# Altium footprint library MKKDS 1 9-3-81.PcbLib: 1 footprints
Each footprint in its own frame and in the unit in brackets; x right, y up, seen from the top. Pads: shape width x height; smd on the part's side, far side on the other; paste and mask are expansions set on the pad; w line width, h text height; cw(c..) or ccw(c..) is an arc to the next point about the centre after c.
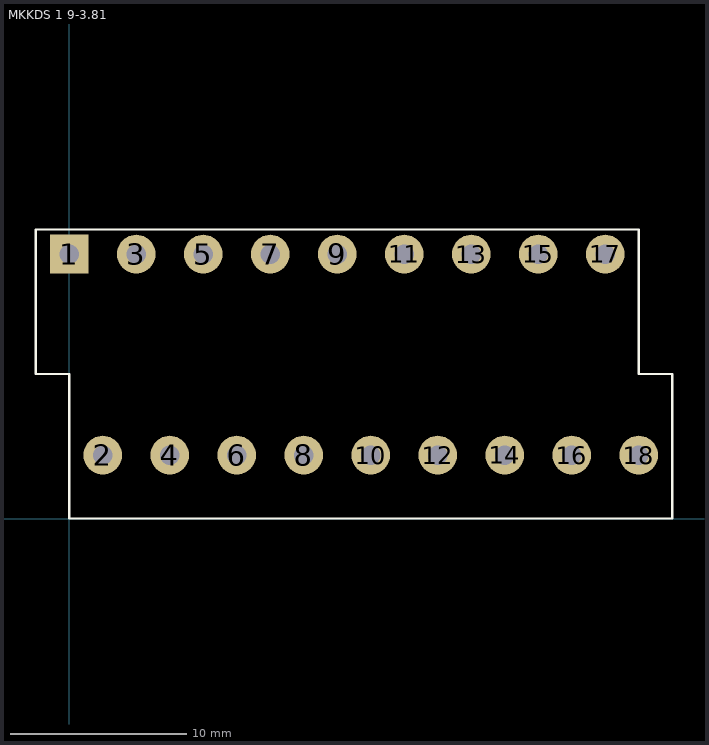
[diagram p0: the footprint, top view; thin cyan lines are the x and y axes]

## MKKDS 1 9-3.81 [mm] "9 Position Wire to Board Terminal Block Horizontal with Board 0.150\" (3.81mm) Through Hole"
pads (18):
  rect 2.2x2.2 hole 1.1: 1(0,15)
  round 2.2 hole 1.1: 2(1.9,3.6) 3(3.8,15) 4(5.7,3.6) 5(7.6,15) 6(9.5,3.6) 7(11.4,15) 8(13.3,3.6) 9(15.2,15) 10(17.1,3.6) 11(19,15) 12(20.9,3.6) 13(22.8,15) 14(24.7,3.6) 15(26.6,15) 16(28.5,3.6) 17(30.4,15) 18(32.3,3.6)
Top Overlay:
  lines w0.127: -1.9,8.2 0,8.2 0,0 34.2,0 34.2,8.2 32.3,8.2 32.3,16.4 -1.9,16.4 -1.9,8.2
3D body "pxc_1708107_05_MKKDS-1-9-3-81_3D.stp": height 16.2, standoff -3.6, extent -1.9,0.05 34.295,16.35